# Altium integrated library W25Q256JVEIQ_TR.IntLib: 1 symbol
Pins are listed as number, name and electrical type; pins without a type are passive.

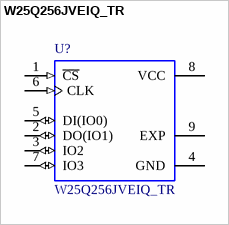
[diagram p0: symbol W25Q256JVEIQ_TR]

## W25Q256JVEIQ_TR
designator U?
Ic Flash 256mbit 104mhz 8wson; MF: Winbond; MP: W25Q256JVEIQ TR; SnapEDA_Link: https://www.snapeda.com/parts/W25Q256JVEIQ%20TR/Winbond%20Electronics/view-part/?ref=snap; Price: None; Availability: Unavailable; Package: WSON-8 Winbond; Value: *
footprint *SON127P800X600X80-9N
pins: 1 ~{CS} (in), 2 DO(IO1) (io), 3 IO2 (io), 4 GND (power), 5 DI(IO0) (io), 6 CLK (in), 7 IO3 (io), 8 VCC (power), 9 EXP (power)